# Altium schematic symbol library TP4054.Schlib: 1 symbol
Pins are listed as number, name and electrical type; pins without a type are passive.

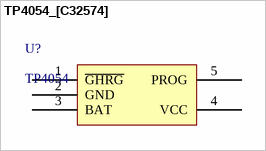
[diagram p0: symbol TP4054_[C32574]]

## TP4054_[C32574]
designator U?, comment TP4054
电池电源管理
footprint SOT-23-5
pins: 1 ~{GHRG}, 2 GND, 3 BAT, 4 VCC, 5 PROG